# EAGLE library part TPS62007_DGS_10 (library IP4283CZ10-TT)
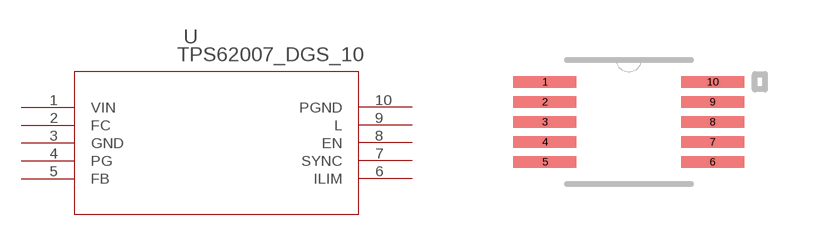
[diagram p0: symbol with the pads of DGS10; footprint DGS10]

Designator prefix U

## TPS62007_DGS_10 (DATASHEETURL: http://www.ti.com/lit/gpn/TPS62007; DESCRIPTION: 3.3-V Output, 600-mA, 95% Efficient Step-Down Converter in MSOP-10; FAMILY_NAME: STEP-DOWN REGULATOR; GENERIC_PART_NUMBER: TPS62007; INDUSTRY_STD_PKG_TYPE: MSOP; MANUFACTURER: Texas Instruments; MANUFACTURER_PART_NUMBER: TPS62007_DGS_10; PACKAGE_DESIGNATOR: DGS; PIN_COUNT: 10; VENDOR: Texas Instruments)  [DGS10]
1  VIN  pwr
2  FC  pas
3  GND  pwr
4  PG  out
5  FB  pas
6  ILIM  pas
7  SYNC  in
8  EN  out
9  L  pas
10  PGND  pwr

## Footprint DGS10 (pad centres in mm)
smd 1.575 x 0.279: 1 -2.095,1; 2 -2.095,0.5; 3 -2.095,0; 4 -2.095,-0.5; 5 -2.095,-1; 6 2.095,-1; 7 2.095,-0.5; 8 2.095,0; 9 2.095,0.5; 10 2.095,1